# EAGLE library part 7508110342 (library WE-OLSTM)
WE-OLSTM Offline Flyback Transformers Characteristics Nominal input voltage: 85–265 VAC (120–375 VDC) Operating temperature: –40 °C to +125 °C Isolation voltage: 2 kVAC up to 5 kVAC Multiple output options Options for fixed frequency or quasi-resonant mode operation Most products meet reinforced insulation Applications Offline-switch mode power supplies Especially designed for several ICs from STMicroelectronics Auxiliary power supply Home appliances Consumer electronics <https://www.we-online.com/components/media/o781306v209%20FAMILY-MID-OLSTM.jpg> Details see: www.we-online.com/en/components/products/WE-OLSTM <www.we-online.com/en/components/products/WE-OLSTM/?utm_source=eagle_model&utm_medium=description_link&utm_campaign=eisos_eagle> Created by Leviosa 2024-04-15 2024(C) Wurth Elektronik
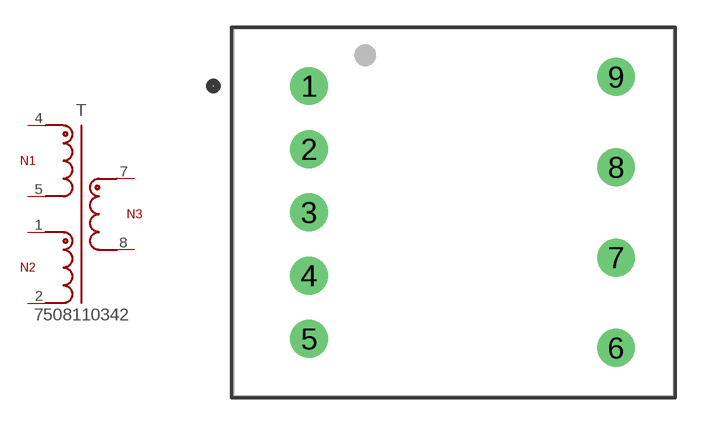
[diagram p4: symbol with the pads of WE-OLSTM_EE16_L20.32W24.38H16_D1.4; footprint WE-OLSTM_EE16_L20.32W24.38H16_D1.4]

Designator prefix T

## 7508110342 (DATASHEET-URL: https://www.we-online.com/redexpert/spec/7508110342?ae; FSWITCH: 60kHz; HEIGHT: 16mm; IOUT1: 0.35A; ISAT: 0.58A; L: 1.2mH; LENGTH: 20.32mm; MOUNT: THT; N: 7.86:1:1.07; PART-NUMBER: 7508110342; SIZE: EE16/8/5; VALUE: 7508110342; VAUX: 12V; VIN: 85 - 265 V (AC); VOUT1: 12V; VT: 4000VAC; WIDTH: 24.38mm)  [WE-OLSTM_EE16_L20.32W24.38H16_D1.4]
1  1  pas
2  2  pas
4  4  pas
5  5  pas
7  7  pas
8  8  pas

## Footprint WE-OLSTM_EE16_L20.32W24.38H16_D1.4 (pad centres in mm)
WE-OLSTM Offline Flyback Transformers for STMicroelectronics Size: EE16, THT, 9Pins LXWXH=24.38X20.32X16mm
drill 1.4: 1 -8.5,7; 2 -8.5,3.5; 3 -8.5,0; 4 -8.5,-3.5; 5 -8.5,-7; 6 8.5,-7.5; 7 8.5,-2.5; 8 8.5,2.5; 9 8.5,7.5